# EAGLE library part FEMALEDOUBLEUSB (library BeCreative)
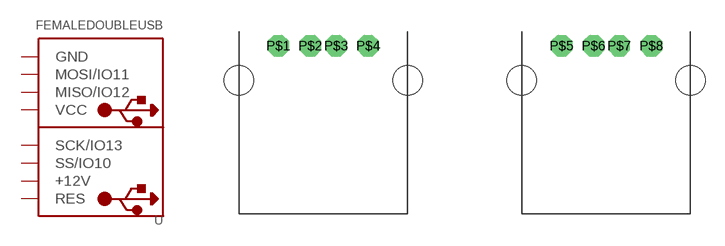
[diagram p5: symbol with the pads of A-USB-A-F-DOUBLE; footprint A-USB-A-F-DOUBLE]

Designator prefix -

## FEMALEDOUBLEUSB  [A-USB-A-F-DOUBLE]
P$1  GND  pwr
P$2  MOSI/IO11
P$3  MISO/IO12
P$4  VCC  pwr
P$5  SCK/IO13  pwr
P$6  SS/IO10
P$7  +12V
P$8  RES  pwr

## Footprint A-USB-A-F-DOUBLE (pad centres in mm)
drill 0.92 pad 1.67 octagon: P$1 -14.515,6.01; P$2 -12.015,6.01; P$3 -10.015,6.01; P$4 -7.515,6.01; P$5 7.545,6.01; P$6 10.045,6.01; P$7 12.045,6.01; P$8 14.545,6.01
hole 2.3 at -17.585,3.3
hole 2.3 at -4.445,3.3
hole 2.3 at 4.445,3.3
hole 2.3 at 17.585,3.3